# Altium schematic symbol library SCH - CONNECTORS - SAMTEC - TFM-110-XX-S-S-A.SchLib: 1 symbol
Pins are listed as number, name and electrical type; pins without a type are passive.

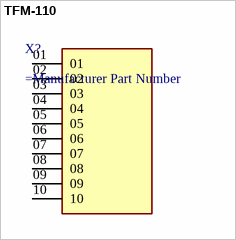
[diagram p0: symbol TFM-110]

## TFM-110
designator X?
pins: 01, 02, 03, 04, 05, 06, 07, 08, 09, 10